# Altium footprint library pcb_butt.PcbLib: 1 footprints
Each footprint in its own frame and in the unit in brackets; x right, y up, seen from the top. Pads: shape width x height; smd on the part's side, far side on the other; paste and mask are expansions set on the pad; w line width, h text height; cw(c..) or ccw(c..) is an arc to the next point about the centre after c.
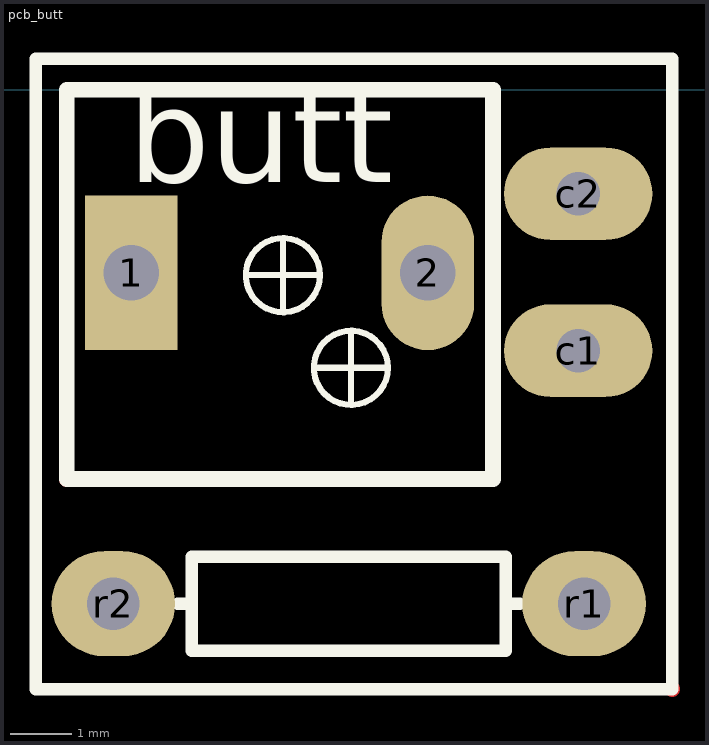
[diagram p0: the footprint, top view; thin cyan lines are the x and y axes]

## pcb_butt [mm]
pads (6):
  rect 1.5x2.5 hole 0.9: 1(13.446,-2.964)
  oval 1.5x2.5 hole 0.9: 2(18.246,-2.964)
  oval 2.4x1.5 hole 0.7: c1(20.678,-4.222) c2(20.678,-1.682)
  oval 2x1.7 hole 0.85: r1(20.774,-8.318) r2(13.154,-8.318)
Top Layer:
  lines w0.254: 12.4,-6.3 12.4,-6.3 ; 22.2,-9.7 22.2,-9.7
Top Overlay:
  circle w0.1: c17,-4.5 r0.6
  circle w0.1: c15.9,-3 r0.6
  lines w0.1: 15.3,-3 16.5,-3 ; 15.9,-3.6 15.9,-2.4 ; 16.4,-4.5 17,-4.5 17.6,-4.5 ; 17,-5.1 17,-3.9
  lines w0.2: 14.195,-8.318 14.424,-8.318 ; 19.504,-8.318 19.733,-8.318 ; 14.424,-8.318 14.424,-7.556 19.504,-7.556 19.504,-9.08 14.424,-9.08 14.424,-8.318 ; 11.9,-9.7 22.2,-9.7 22.2,0.5 11.9,0.5 11.9,-9.7
  lines w0.254: 12.4,-6.3 19.3,-6.3 19.3,0 12.4,0 12.4,-6.3
  text "butt" at 13.4,-1.5 h1.52